# Altium footprint library IMTP AD.PcbLib: 5 footprints
Each footprint in its own frame and in the unit in brackets; x right, y up, seen from the top. Pads: shape width x height; smd on the part's side, far side on the other; paste and mask are expansions set on the pad; w line width, h text height; cw(c..) or ccw(c..) is an arc to the next point about the centre after c.
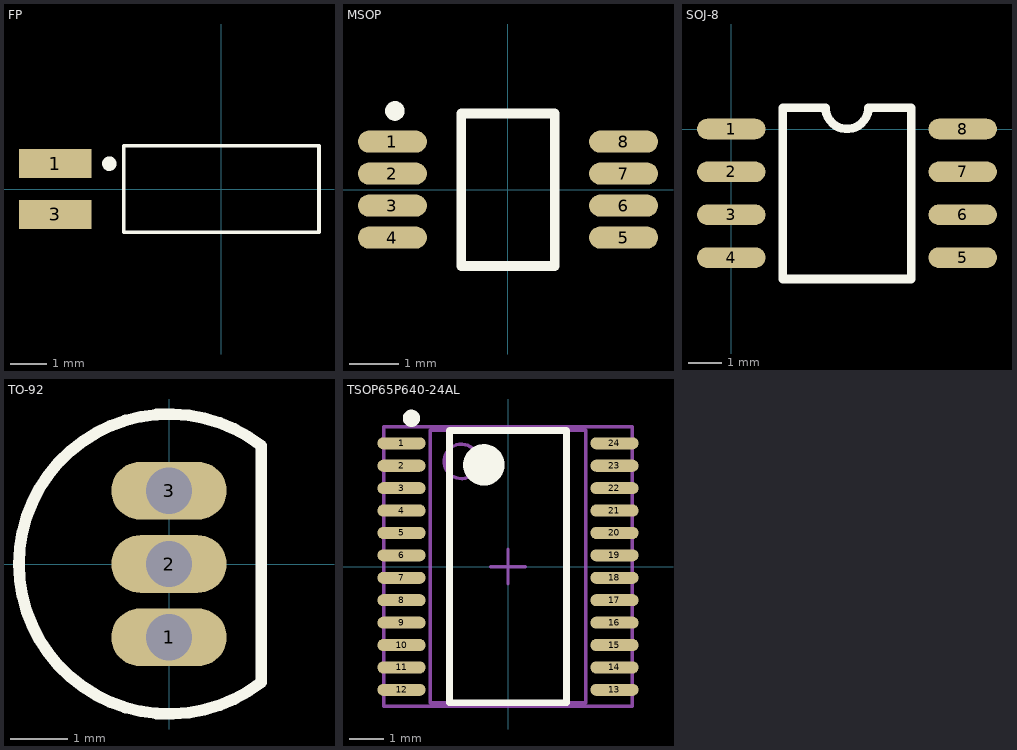
[diagram p0: the footprints below, top view; thin cyan lines are the x and y axes]

## FP [mm]
pads (2):
  rect 2x0.8 smd: 1(-4.6,0.7) 3(-4.6,-0.7)
Top Overlay:
  circle w0.2: c-3.1,0.7 r0.1
  lines w0.1: -2.7,-1.2 -2.7,1.2 2.7,1.2 2.7,-1.2 -2.7,-1.2
3D body: height 0.2, standoff 0, extent -5.3,-1 -2.7,-0.4
3D body: height 0.2, standoff 0, extent -5.3,0.4 -2.7,1
3D body: height 1.27, standoff 0, extent -2.7,-1.2 2.7,1.2

## MSOP [mm] "TSOP, 8-Leads, Body 3x3mm, Pitch 0.65mm, IPC High Density"
height 1.1
pads (8):
  oval 1.4x0.45 smd: 1(-2.35,0.975) 2(-2.35,0.325) 3(-2.35,-0.325) 4(-2.35,-0.975) 5(2.35,-0.975) 6(2.35,-0.325) 7(2.35,0.325) 8(2.35,0.975)
Top Overlay:
  circle w0.2: c-2.3,1.6 r0.1
  lines w0.2: -0.95,-1.55 0.95,-1.55 0.95,1.55 -0.95,1.55 -0.95,-1.55
3D body: height 1.1, standoff 0, extent -1.6,-1.6 1.6,1.6

## SOJ-8 [mil]
pads (8):
  oval 80x24 smd: 1(0,0) 2(0,-50) 3(0,-100) 4(0,-150) 5(270,-150) 6(270,-100) 7(270,-50) 8(270,0)
Top Overlay:
  lines w10: 60,-175 210,-175 210,25 160,25 cw(c135,25) 110,25 60,25 60,-175
3D body: height 74.5, standoff -0.39, extent 10.22,-174 259.78,23

## TO-92 [mm] "TO, Flat Index; 3 In-Line, Axial Leads; Body Dia. 5.1mm; Leads 0.48 x 0.48 mm (max)"
height 5.33
pads (3):
  oval 2x1 hole 0.8: 1(0,-1.27) 2(0,0) 3(0,1.27)
Top Overlay:
  lines w0.2: 1.601,-2.049 cw(c0,0) 1.601,2.049 ; 1.6,-1.99 1.6,1.99
3D body: height 10.31, standoff -5.8, extent -3.048,-3.152 1.762,3.048

## TSOP65P640-24AL [mm] "TSOP, 24-Leads, Body 7.8x4.4mm, Pitch 0.65mm, IPC High Density"
height 1.1
pads (24):
  oval 1.4x0.35 smd: 1(-3.087,3.575) 2(-3.087,2.925) 3(-3.087,2.275) 4(-3.087,1.625) 5(-3.087,0.975) 6(-3.087,0.325) 7(-3.087,-0.325) 8(-3.087,-0.975) 9(-3.087,-1.625) 10(-3.087,-2.275) 11(-3.087,-2.925) 12(-3.087,-3.575) 13(3.087,-3.575) 14(3.087,-2.925) 15(3.087,-2.275) 16(3.087,-1.625) 17(3.087,-0.975) 18(3.087,-0.325) 19(3.087,0.325) 20(3.087,0.975) 21(3.087,1.625) 22(3.087,2.275) 23(3.087,2.925) 24(3.087,3.575)
Top Overlay:
  circle w0.25: c-2.8,4.3 r0.125
  circle w0.6: c-0.7,2.95 r0.3
  lines w0.2: -1.7,-3.95 -1.7,3.95 1.7,3.95 1.7,-3.95 -1.7,-3.95
Mechanical 13:
  circle w0.1: c-1.35,3.05 r0.5
  lines w0.1: -2.25,-3.95 -2.25,3.95 2.25,3.95 2.25,-3.95 -2.25,-3.95
Mechanical 15:
  lines w0.1: -0.5,0 0.5,0 ; 0,-0.5 0,0.5 ; -3.6,-4.05 -3.6,4.05 3.6,4.05 3.6,-4.05 -3.6,-4.05
3D body: height 1.45, standoff 0.27, extent -3.178,-3.953 3.229,3.937